# Altium integrated library testlib_ntk3.IntLib: 9 symbols
Pins are listed as number, name and electrical type; pins without a type are passive.

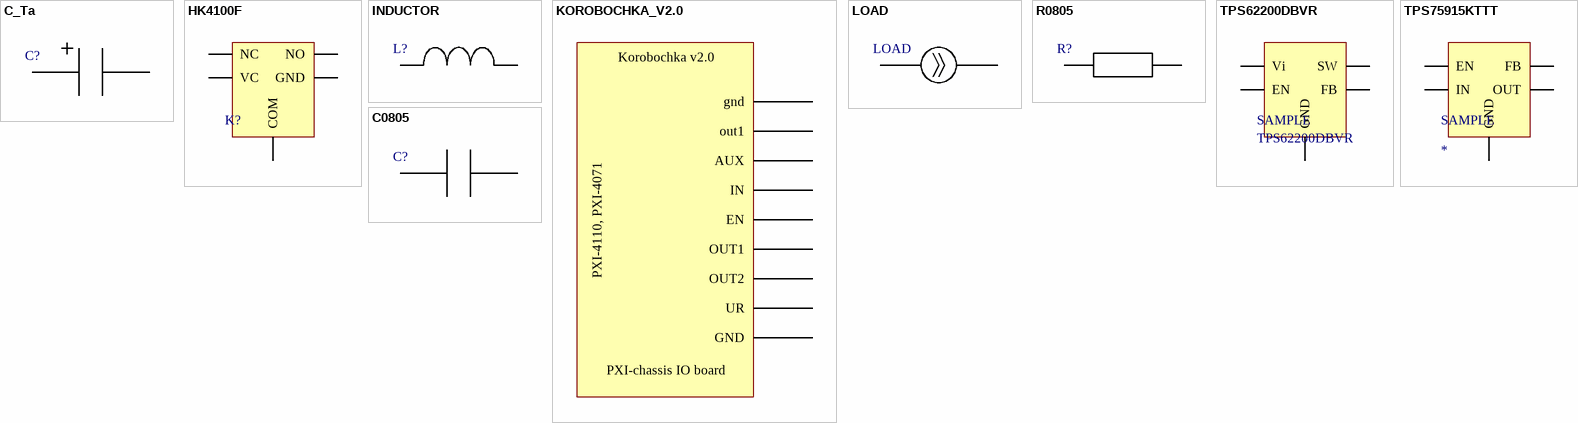
[diagram p0: symbols C_Ta to С0805]

## C_Ta
designator C?  (value not drawn)
tantalum capacitor
footprint C_Ta (tantalum capacitor)
pins: 1, 2

## HK4100F
designator K?  (value not drawn)
5-pin relay
footprint HK4100F (5-pin relay)
pins: 0 COM, 1 NO, 2 NC, 3 GND, 4 VC

## INDUCTOR
designator L?  (value not drawn)
footprint INDUCTOR (SMD inductor)
pins: 0, 1

## KOROBOCHKA_V2.0
designator KOROBOCHKA_V2.0  (value not drawn)
pxi chassis io board
footprint KROBOCHKA_V2.0 (pxi chassis connectoin board)
pins: 1 GND, 2 UR, 3 OUT2, 4 OUT1, 5 EN, 6 IN, 7 AUX, 8 out1, 9 gnd
text: Korobochka v2.0; PXI-4110, PXI-4071; PXI-chassis IO board

## LOAD
designator LOAD  (value not drawn)
footprint LOAD
pins: 1, 2

## R0805
designator R?  (value not drawn)
0805 resistor
footprint 0805 (SMD 0805 footprint)
pins: 0, 1

## TPS62200DBVR
designator SAMPLE
dc-dc step down converter
footprint TPS62200DBVR (dc-dc step down converter, sot23, 5 pin)
pins: 1 Vi, 2 EN, 3 GND, 4 FB, 5 SW

## TPS75915KTTT
designator SAMPLE
footprint TPS75915KTTT
pins: 1 EN, 2 IN, 3 GND, 4 OUT, 5 FB

## С0805
designator C?  (value not drawn)
0805 capacitor
footprint 0805 (SMD 0805 footprint)
pins: 0, 1